# EAGLE library part CD4051B (library PowerManagementParts)
CD4051BM 8-1 Mux/Demux in SOIC16 Package.
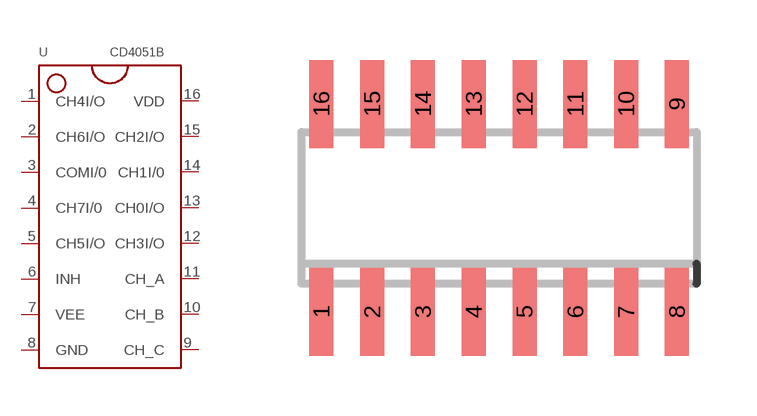
[diagram p3: symbol with the pads of SOIC16N; footprint SOIC16N]

Designator prefix -

## CD4051B  [SOIC16N]
1  CH4I/O
2  CH6I/O
3  COMI/0
4  CH7I/0
5  CH5I/O
6  INH
7  VEE
8  GND
9  CH_C
10  CH_B
11  CH_A
12  CH3I/O
13  CH0I/O
14  CH1I/0
15  CH2I/O
16  VDD

## Footprint SOIC16N (pad centres in mm)
SMALL OUTLINE INTEGRATED CIRCUIT
smd 0.6 x 2.2: 1 -4.445,-2.6; 2 -3.175,-2.6; 3 -1.905,-2.6; 4 -0.635,-2.6; 5 0.635,-2.6; 6 1.905,-2.6; 7 3.175,-2.6; 8 4.445,-2.6; 9 4.445,2.6; 10 3.175,2.6; 11 1.905,2.6; 12 0.635,2.6; 13 -0.635,2.6; 14 -1.905,2.6; 15 -3.175,2.6; 16 -4.445,2.6